# Altium schematic symbol library MOSFET-P.SchLib: 1 symbol
Pins are listed as number, name and electrical type; pins without a type are passive.

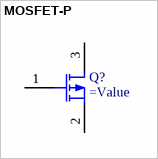
[diagram p0: symbol MOSFET-P]

## MOSFET-P
designator Q?
=Desciption
pins: 1 G, 2 S, 3 D